# EAGLE library part GE863-PRO (library telit-modules)
Telit GE863-PRO
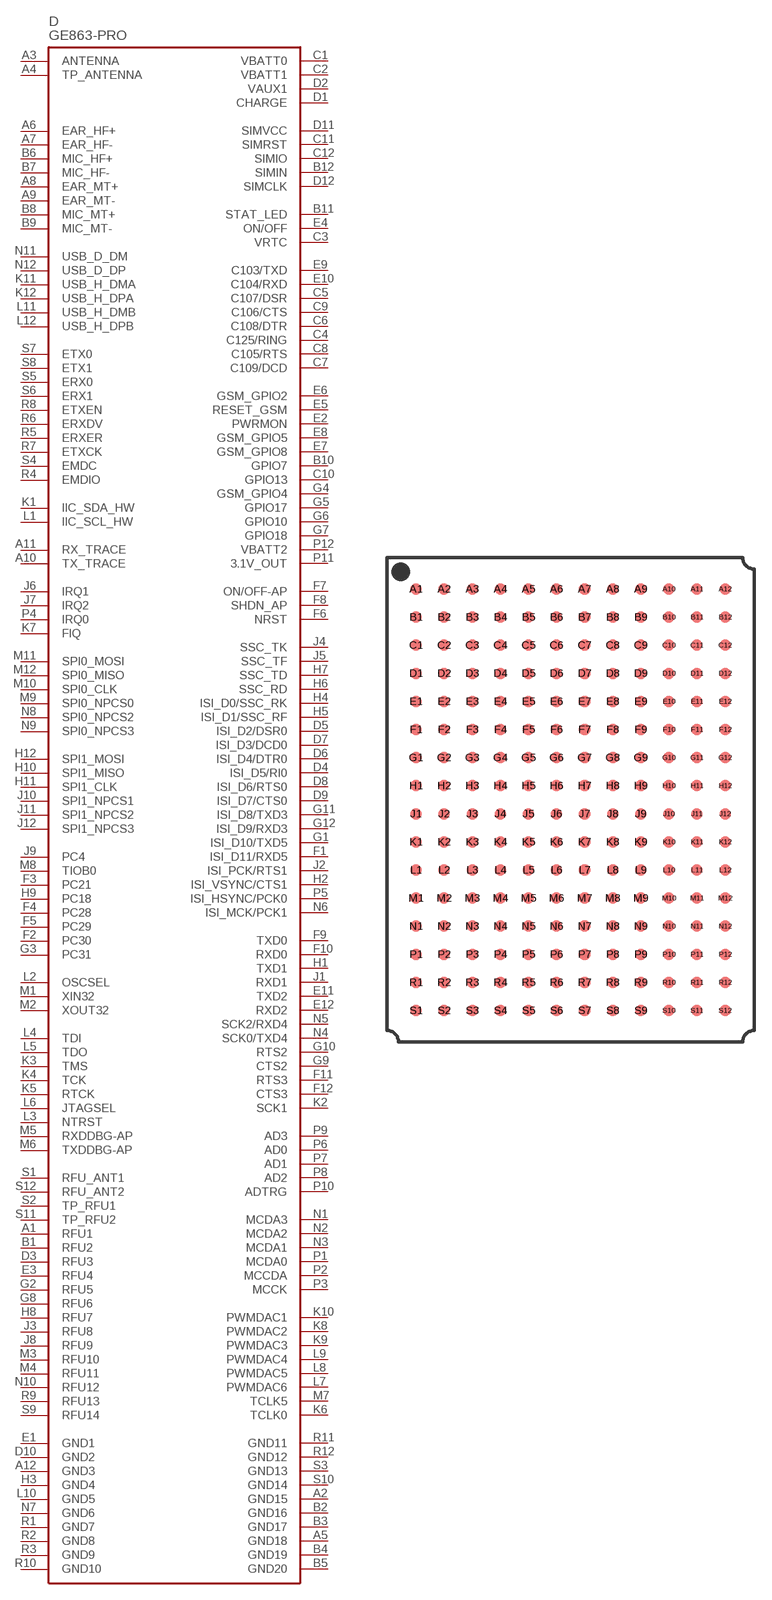
[diagram p4: symbol with the pads of GE863-PRO; footprint GE863-PRO]

Designator prefix D

## GE863-PRO  [GE863-PRO]
A1  RFU1  pas
A2  GND15  pwr
A3  ANTENNA  pas
A4  TP_ANTENNA  pas
A5  GND18  pwr
A6  EAR_HF+  pas
A7  EAR_HF-  pas
A8  EAR_MT+  pas
A9  EAR_MT-  pas
A10  TX_TRACE  pas
A11  RX_TRACE  pas
A12  GND3  pwr
B1  RFU2  pas
B2  GND16  pwr
B3  GND17  pwr
B4  GND19  pwr
B5  GND20  pwr
B6  MIC_HF+  pas
B7  MIC_HF-  pas
B8  MIC_MT+  pas
B9  MIC_MT-  pas
B10  GPIO7
B11  STAT_LED  out
B12  SIMIN  in
C1  VBATT0  pwr
C2  VBATT1  pwr
C3  VRTC  pas
C4  C125/RING  out
C5  C107/DSR  out
C6  C108/DTR  in
C7  C109/DCD  out
C8  C105/RTS  in
C9  C106/CTS  out
C10  GPIO13
C11  SIMRST  out
C12  SIMIO
D1  CHARGE  pwr
D2  VAUX1  pas
D3  RFU3  pas
D4  ISI_D5/RI0  pas
D5  ISI_D2/DSR0  pas
D6  ISI_D4/DTR0  pas
D7  ISI_D3/DCD0  pas
D8  ISI_D6/RTS0  pas
D9  ISI_D7/CTS0  pas
D10  GND2  pwr
D11  SIMVCC  pas
D12  SIMCLK  out
E1  GND1  pwr
E2  PWRMON
E3  RFU4  pas
E4  ON/OFF  in
E5  RESET_GSM  in
E6  GSM_GPIO2
E7  GSM_GPIO8
E8  GSM_GPIO5
E9  C103/TXD  in
E10  C104/RXD  out
E11  TXD2  pas
E12  RXD2  pas
F1  ISI_D11/RXD5  pas
F2  PC30  pas
F3  PC21  pas
F4  PC28  pas
F5  PC29  pas
F6  NRST  pas
F7  ON/OFF-AP  pas
F8  SHDN_AP  pas
F9  TXD0  pas
F10  RXD0  pas
F11  RTS3  pas
F12  CTS3  pas
G1  ISI_D10/TXD5  pas
G2  RFU5  pas
G3  PC31  pas
G4  GSM_GPIO4
G5  GPIO17
G6  GPIO10
G7  GPIO18
G8  RFU6  pas
G9  CTS2  pas
G10  RTS2  pas
G11  ISI_D8/TXD3  pas
G12  ISI_D9/RXD3  pas
H1  TXD1  pas
H2  ISI_VSYNC/CTS1  pas
H3  GND4  pwr
H4  ISI_D0/SSC_RK  pas
H5  ISI_D1/SSC_RF  pas
H6  SSC_RD  pas
H7  SSC_TD  pas
H8  RFU7  pas
H9  PC18  pas
H10  SPI1_MISO  pas
H11  SPI1_CLK  pas
H12  SPI1_MOSI  pas
J1  RXD1  pas
J2  ISI_PCK/RTS1  pas
J3  RFU8  pas
J4  SSC_TK  pas
J5  SSC_TF  pas
J6  IRQ1  pas
J7  IRQ2  pas
J8  RFU9  pas
J9  PC4  pas
J10  SPI1_NPCS1  pas
J11  SPI1_NPCS2  pas
J12  SPI1_NPCS3  pas
K1  IIC_SDA_HW  pas
K2  SCK1  pas
K3  TMS  pas
K4  TCK  pas
K5  RTCK  pas
K6  TCLK0  pas
K7  FIQ  pas
K8  PWMDAC2  pas
K9  PWMDAC3  pas
K10  PWMDAC1  pas
K11  USB_H_DMA  pas
K12  USB_H_DPA  pas
L1  IIC_SCL_HW  pas
L2  OSCSEL  pas
L3  NTRST  pas
L4  TDI  pas
L5  TDO  pas
L6  JTAGSEL  pas
L7  PWMDAC6  pas
L8  PWMDAC5  pas
L9  PWMDAC4  pas
L10  GND5  pwr
L11  USB_H_DMB  pas
L12  USB_H_DPB  pas
M1  XIN32  pas
M2  XOUT32  pas
M3  RFU10  pas
M4  RFU11  pas
M5  RXDDBG-AP  pas
M6  TXDDBG-AP  pas
M7  TCLK5  pas
M8  TIOB0  pas
M9  SPI0_NPCS0  pas
M10  SPI0_CLK  pas
M11  SPI0_MOSI  pas
M12  SPI0_MISO  pas
N1  MCDA3  pas
N2  MCDA2  pas
N3  MCDA1  pas
N4  SCK0/TXD4  pas
N5  SCK2/RXD4  pas
N6  ISI_MCK/PCK1  pas
N7  GND6  pwr
N8  SPI0_NPCS2  pas
N9  SPI0_NPCS3  pas
N10  RFU12  pas
N11  USB_D_DM  pas
N12  USB_D_DP  pas
P1  MCDA0  pas
P2  MCCDA  pas
P3  MCCK  pas
P4  IRQ0  pas
P5  ISI_HSYNC/PCK0  pas
P6  AD0  in
P7  AD1  in
P8  AD2  in
P9  AD3  in
P10  ADTRG  in
P11  3.1V_OUT  pwr
P12  VBATT2  pwr
R1  GND7  pwr
R2  GND8  pwr
R3  GND9  pwr
R4  EMDIO  pas
R5  ERXER  pas
R6  ERXDV  pas
R7  ETXCK  pas
R8  ETXEN  pas
R9  RFU13  pas
R10  GND10  pwr
R11  GND11  pwr
R12  GND12  pwr
S1  RFU_ANT1  pas
S2  TP_RFU1  pas
S3  GND13  pwr
S4  EMDC  pas
S5  ERX0  pas
S6  ERX1  pas
S7  ETX0  pas
S8  ETX1  pas
S9  RFU14  pas
S10  GND14  pwr
S11  TP_RFU2  pas
S12  RFU_ANT2  pas

## Footprint GE863-PRO (pad centres in mm)
smd 1 x 1: A1 -13.2,18; A2 -10.8,18; A3 -8.4,18; A4 -6,18; A5 -3.6,18; A6 -1.2,18; A7 1.2,18; A8 3.6,18; A9 6,18; A10 8.4,18; A11 10.8,18; A12 13.2,18; B1 -13.2,15.6; B2 -10.8,15.6; B3 -8.4,15.6; B4 -6,15.6; B5 -3.6,15.6; B6 -1.2,15.6; B7 1.2,15.6; B8 3.6,15.6; B9 6,15.6; B10 8.4,15.6; B11 10.8,15.6; B12 13.2,15.6; C1 -13.2,13.2; C2 -10.8,13.2; C3 -8.4,13.2; C4 -6,13.2; C5 -3.6,13.2; C6 -1.2,13.2; C7 1.2,13.2; C8 3.6,13.2; C9 6,13.2; C10 8.4,13.2; C11 10.8,13.2; C12 13.2,13.2; D1 -13.2,10.8; D2 -10.8,10.8; D3 -8.4,10.8; D4 -6,10.8; D5 -3.6,10.8; D6 -1.2,10.8; D7 1.2,10.8; D8 3.6,10.8; D9 6,10.8; D10 8.4,10.8; D11 10.8,10.8; D12 13.2,10.8; E1 -13.2,8.4; E2 -10.8,8.4; E3 -8.4,8.4; E4 -6,8.4; E5 -3.6,8.4; E6 -1.2,8.4; E7 1.2,8.4; E8 3.6,8.4; E9 6,8.4; E10 8.4,8.4; E11 10.8,8.4; E12 13.2,8.4; F1 -13.2,6; F2 -10.8,6; F3 -8.4,6; F4 -6,6; F5 -3.6,6; F6 -1.2,6; F7 1.2,6; F8 3.6,6; F9 6,6; F10 8.4,6; F11 10.8,6; F12 13.2,6; G1 -13.2,3.6; G2 -10.8,3.6; G3 -8.4,3.6; G4 -6,3.6; G5 -3.6,3.6; G6 -1.2,3.6; G7 1.2,3.6; G8 3.6,3.6; G9 6,3.6; G10 8.4,3.6; G11 10.8,3.6; G12 13.2,3.6; H1 -13.2,1.2; H2 -10.8,1.2; H3 -8.4,1.2; H4 -6,1.2; H5 -3.6,1.2; H6 -1.2,1.2; H7 1.2,1.2; H8 3.6,1.2; H9 6,1.2; H10 8.4,1.2; H11 10.8,1.2; H12 13.2,1.2; J1 -13.2,-1.2; J2 -10.8,-1.2; J3 -8.4,-1.2; J4 -6,-1.2; J5 -3.6,-1.2; J6 -1.2,-1.2; J7 1.2,-1.2; J8 3.6,-1.2; J9 6,-1.2; J10 8.4,-1.2; J11 10.8,-1.2; J12 13.2,-1.2; K1 -13.2,-3.6; K2 -10.8,-3.6; K3 -8.4,-3.6; K4 -6,-3.6; K5 -3.6,-3.6; K6 -1.2,-3.6; K7 1.2,-3.6; K8 3.6,-3.6; K9 6,-3.6; K10 8.4,-3.6; K11 10.8,-3.6; K12 13.2,-3.6; L1 -13.2,-6; L2 -10.8,-6; L3 -8.4,-6; L4 -6,-6; L5 -3.6,-6; L6 -1.2,-6; L7 1.2,-6; L8 3.6,-6; L9 6,-6; L10 8.4,-6; L11 10.8,-6; L12 13.2,-6; M1 -13.2,-8.4; M2 -10.8,-8.4; M3 -8.4,-8.4; M4 -6,-8.4; M5 -3.6,-8.4; M6 -1.2,-8.4; M7 1.2,-8.4; M8 3.6,-8.4; M9 6,-8.4; M10 8.4,-8.4; M11 10.8,-8.4; M12 13.2,-8.4; N1 -13.2,-10.8; N2 -10.8,-10.8; N3 -8.4,-10.8; N4 -6,-10.8; N5 -3.6,-10.8; N6 -1.2,-10.8; N7 1.2,-10.8; N8 3.6,-10.8; N9 6,-10.8; N10 8.4,-10.8; N11 10.8,-10.8; N12 13.2,-10.8; P1 -13.2,-13.2; P2 -10.8,-13.2; P3 -8.4,-13.2; P4 -6,-13.2; P5 -3.6,-13.2; P6 -1.2,-13.2; P7 1.2,-13.2; P8 3.6,-13.2; P9 6,-13.2; P10 8.4,-13.2; P11 10.8,-13.2; P12 13.2,-13.2; R1 -13.2,-15.6; R2 -10.8,-15.6; R3 -8.4,-15.6; R4 -6,-15.6; R5 -3.6,-15.6; R6 -1.2,-15.6; R7 1.2,-15.6; R8 3.6,-15.6; R9 6,-15.6; R10 8.4,-15.6; R11 10.8,-15.6; R12 13.2,-15.6; S1 -13.2,-18; S2 -10.8,-18; S3 -8.4,-18; S4 -6,-18; S5 -3.6,-18; S6 -1.2,-18; S7 1.2,-18; S8 3.6,-18; S9 6,-18; S10 8.4,-18; S11 10.8,-18; S12 13.2,-18